# Altium schematic symbol library SymbolAids.SchLib: 3 symbols
Pins are listed as number, name and electrical type; pins without a type are passive.

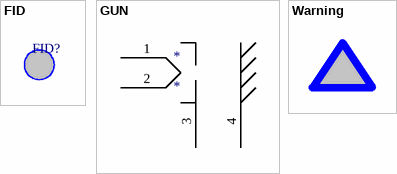
[diagram p0: symbols FID to Warning]

## FID
designator FID?  (value not drawn)
footprint FID

## GUN
designator *
pins: 1, 2, 3, 4

## Warning
designator ?  (value not drawn)
footprint Warning